# EAGLE library part MIC5234YME (library circuit_tree)
IC
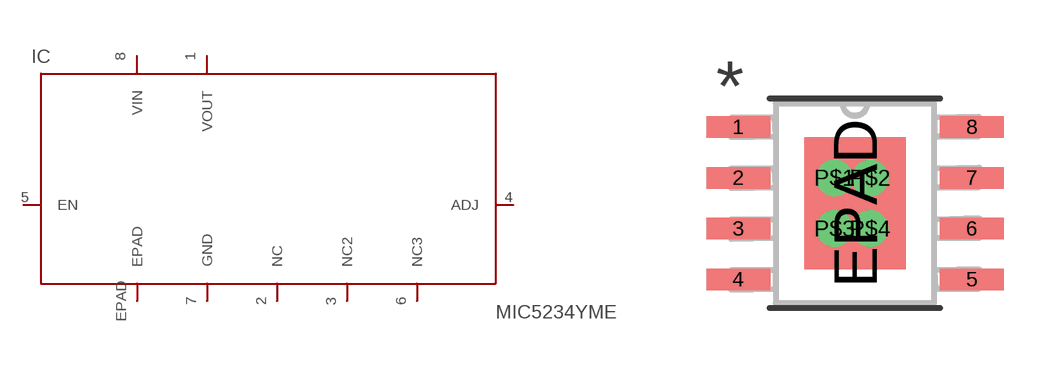
[diagram p4: symbol with the pads of SOIC-8_EP; footprint SOIC-8_EP]

Designator prefix IC

## MIC5234YME  [SOIC-8_EP]
1  VOUT  pas
2  NC  pas
3  NC2  pas
4  ADJ  pas
5  EN  pas
6  NC3  pas
7  GND  pas
8  VIN  pas
EPAD  EPAD  pas

## Footprint SOIC-8_EP (pad centres in mm)
smd 1.6 x 0.533: 1 -2.921,1.905; 2 -2.921,0.635; 3 -2.921,-0.635; 4 -2.921,-1.905; 5 2.921,-1.905; 6 2.921,-0.635; 7 2.921,0.635; 8 2.921,1.905
smd 2.54 x 3.302: EPAD 0,0
drill 0.406 pad 0.406: P$1 -0.508,0.635; P$2 0.381,0.635; P$3 -0.508,-0.635; P$4 0.381,-0.635